# EAGLE library part LT3081 (library linear-technology)
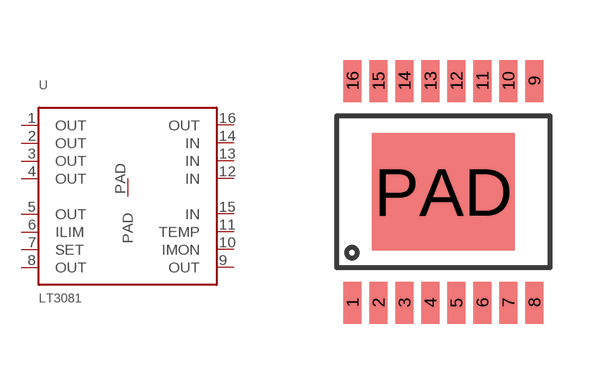
[diagram p28: symbol with the pads of TSSOP16; footprint TSSOP16]

Designator prefix -

## LT3081  [TSSOP16]
1  OUT
2  OUT
3  OUT
4  OUT
5  OUT
6  ILIM
7  SET
8  OUT
9  OUT
10  IMON
11  TEMP
12  IN
13  IN
14  IN
15  IN
16  OUT
PAD  PAD

## Footprint TSSOP16 (pad centres in mm)
smd 0.45 x 1.05: 1 -2.275,-2.775; 2 -1.625,-2.775; 3 -0.975,-2.775; 4 -0.325,-2.775; 5 0.325,-2.775; 6 0.975,-2.775; 7 1.625,-2.775; 8 2.275,-2.775; 9 2.275,2.775; 10 1.625,2.775; 11 0.975,2.775; 12 0.325,2.775; 13 -0.325,2.775; 14 -0.975,2.775; 15 -1.625,2.775; 16 -2.275,2.775
smd 3.58 x 2.94: PAD 0,0